# EAGLE library part PIC32MX795F512 (library SM-Microchip)
USB, CAN and Ethernet 32-bit Flash Microcontroller
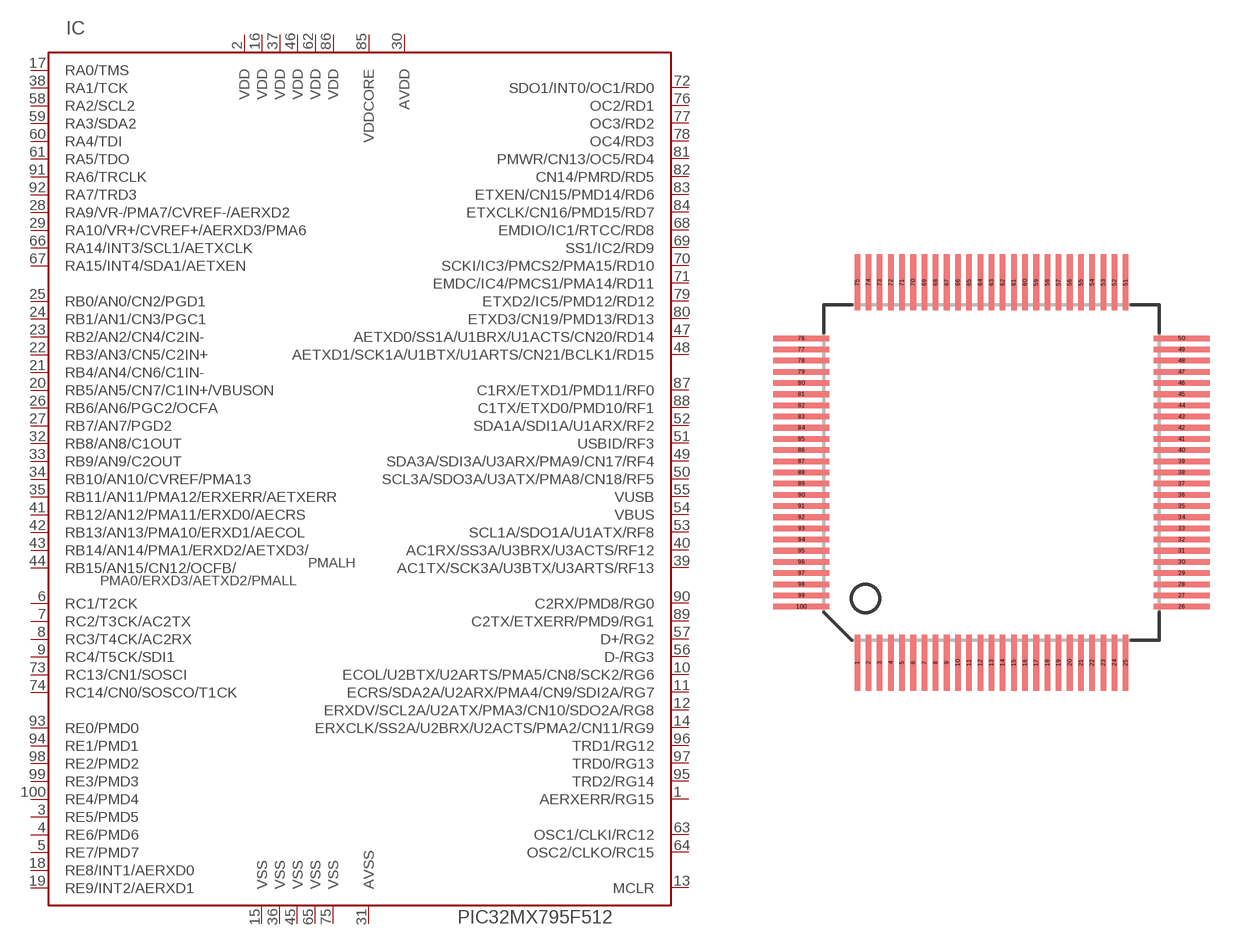
[diagram p1: symbol with the pads of TQFP100_12X12; footprint TQFP100_12X12]

Designator prefix IC

## PIC32MX795F512L  [TQFP100_12X12]
1  AERXERR/RG15
2  VDD  pwr
3  RE5/PMD5
4  RE6/PMD6
5  RE7/PMD7
6  RC1/T2CK
7  RC2/T3CK/AC2TX
8  RC3/T4CK/AC2RX
9  RC4/T5CK/SDI1
10  ECOL/U2BTX/U2ARTS/PMA5/CN8/SCK2/RG6
11  ECRS/SDA2A/U2ARX/PMA4/CN9/SDI2A/RG7
12  ERXDV/SCL2A/U2ATX/PMA3/CN10/SDO2A/RG8
13  MCLR
14  ERXCLK/SS2A/U2BRX/U2ACTS/PMA2/CN11/RG9
15  VSS  pwr
16  VDD  pwr
17  RA0/TMS
18  RE8/INT1/AERXD0
19  RE9/INT2/AERXD1
20  RB5/AN5/CN7/C1IN+/VBUSON
21  RB4/AN4/CN6/C1IN-
22  RB3/AN3/CN5/C2IN+
23  RB2/AN2/CN4/C2IN-
24  RB1/AN1/CN3/PGC1
25  RB0/AN0/CN2/PGD1
26  RB6/AN6/PGC2/OCFA
27  RB7/AN7/PGD2
28  RA9/VR-/PMA7/CVREF-/AERXD2
29  RA10/VR+/CVREF+/AERXD3/PMA6
30  AVDD
31  AVSS
32  RB8/AN8/C1OUT
33  RB9/AN9/C2OUT
34  RB10/AN10/CVREF/PMA13
35  RB11/AN11/PMA12/ERXERR/AETXERR
36  VSS  pwr
37  VDD  pwr
38  RA1/TCK
39  AC1TX/SCK3A/U3BTX/U3ARTS/RF13
40  AC1RX/SS3A/U3BRX/U3ACTS/RF12
41  RB12/AN12/PMA11/ERXD0/AECRS
42  RB13/AN13/PMA10/ERXD1/AECOL
43  RB14/AN14/PMA1/ERXD2/AETXD3/
44  RB15/AN15/CN12/OCFB/
45  VSS  pwr
46  VDD  pwr
47  AETXD0/SS1A/U1BRX/U1ACTS/CN20/RD14
48  AETXD1/SCK1A/U1BTX/U1ARTS/CN21/BCLK1/RD15
49  SDA3A/SDI3A/U3ARX/PMA9/CN17/RF4
50  SCL3A/SDO3A/U3ATX/PMA8/CN18/RF5
51  USBID/RF3
52  SDA1A/SDI1A/U1ARX/RF2
53  SCL1A/SDO1A/U1ATX/RF8
54  VBUS
55  VUSB
56  D-/RG3
57  D+/RG2
58  RA2/SCL2
59  RA3/SDA2
60  RA4/TDI
61  RA5/TDO
62  VDD  pwr
63  OSC1/CLKI/RC12
64  OSC2/CLKO/RC15
65  VSS  pwr
66  RA14/INT3/SCL1/AETXCLK
67  RA15/INT4/SDA1/AETXEN
68  EMDIO/IC1/RTCC/RD8
69  SS1/IC2/RD9
70  SCKI/IC3/PMCS2/PMA15/RD10
71  EMDC/IC4/PMCS1/PMA14/RD11
72  SDO1/INT0/OC1/RD0
73  RC13/CN1/SOSCI
74  RC14/CN0/SOSCO/T1CK
75  VSS  pwr
76  OC2/RD1
77  OC3/RD2
78  OC4/RD3
79  ETXD2/IC5/PMD12/RD12
80  ETXD3/CN19/PMD13/RD13
81  PMWR/CN13/OC5/RD4
82  CN14/PMRD/RD5
83  ETXEN/CN15/PMD14/RD6
84  ETXCLK/CN16/PMD15/RD7
85  VDDCORE
86  VDD  pwr
87  C1RX/ETXD1/PMD11/RF0
88  C1TX/ETXD0/PMD10/RF1
89  C2TX/ETXERR/PMD9/RG1
90  C2RX/PMD8/RG0
91  RA6/TRCLK
92  RA7/TRD3
93  RE0/PMD0
94  RE1/PMD1
95  TRD2/RG14
96  TRD1/RG12
97  TRD0/RG13
98  RE2/PMD2
99  RE3/PMD3
100  RE4/PMD4

## Footprint TQFP100_12X12 (pad centres in mm)
TQFP100 12 X 12 MM
smd 0.2 x 2: 1 -4.8,-6.8; 2 -4.4,-6.8; 3 -4,-6.8; 4 -3.6,-6.8; 5 -3.2,-6.8; 6 -2.8,-6.8; 7 -2.4,-6.8; 8 -2,-6.8; 9 -1.6,-6.8; 10 -1.2,-6.8; 11 -0.8,-6.8; 12 -0.4,-6.8; 13 0,-6.8; 14 0.4,-6.8; 15 0.8,-6.8; 16 1.2,-6.8; 17 1.6,-6.8; 18 2,-6.8; 19 2.4,-6.8; 20 2.8,-6.8; 21 3.2,-6.8; 22 3.6,-6.8; 23 4,-6.8; 24 4.4,-6.8; 25 4.8,-6.8; 51 4.8,6.8; 52 4.4,6.8; 53 4,6.8; 54 3.6,6.8; 55 3.2,6.8; 56 2.8,6.8; 57 2.4,6.8; 58 2,6.8; 59 1.6,6.8; 60 1.2,6.8; 61 0.8,6.8; 62 0.4,6.8; 63 0,6.8; 64 -0.4,6.8; 65 -0.8,6.8; 66 -1.2,6.8; 67 -1.6,6.8; 68 -2,6.8; 69 -2.4,6.8; 70 -2.8,6.8; 71 -3.2,6.8; 72 -3.6,6.8; 73 -4,6.8; 74 -4.4,6.8; 75 -4.8,6.8
smd 2 x 0.2: 26 6.8,-4.8; 27 6.8,-4.4; 28 6.8,-4; 29 6.8,-3.6; 30 6.8,-3.2; 31 6.8,-2.8; 32 6.8,-2.4; 33 6.8,-2; 34 6.8,-1.6; 35 6.8,-1.2; 36 6.8,-0.8; 37 6.8,-0.4; 38 6.8,0; 39 6.8,0.4; 40 6.8,0.8; 41 6.8,1.2; 42 6.8,1.6; 43 6.8,2; 44 6.8,2.4; 45 6.8,2.8; 46 6.8,3.2; 47 6.8,3.6; 48 6.8,4; 49 6.8,4.4; 50 6.8,4.8; 76 -6.8,4.8; 77 -6.8,4.4; 78 -6.8,4; 79 -6.8,3.6; 80 -6.8,3.2; 81 -6.8,2.8; 82 -6.8,2.4; 83 -6.8,2; 84 -6.8,1.6; 85 -6.8,1.2; 86 -6.8,0.8; 87 -6.8,0.4; 88 -6.8,0; 89 -6.8,-0.4; 90 -6.8,-0.8; 91 -6.8,-1.2; 92 -6.8,-1.6; 93 -6.8,-2; 94 -6.8,-2.4; 95 -6.8,-2.8; 96 -6.8,-3.2; 97 -6.8,-3.6; 98 -6.8,-4; 99 -6.8,-4.4; 100 -6.8,-4.8